# Altium footprint library sma_footprint.PcbLib: 1 footprints
Each footprint in its own frame and in the unit in brackets; x right, y up, seen from the top. Pads: shape width x height; smd on the part's side, far side on the other; paste and mask are expansions set on the pad; w line width, h text height; cw(c..) or ccw(c..) is an arc to the next point about the centre after c.
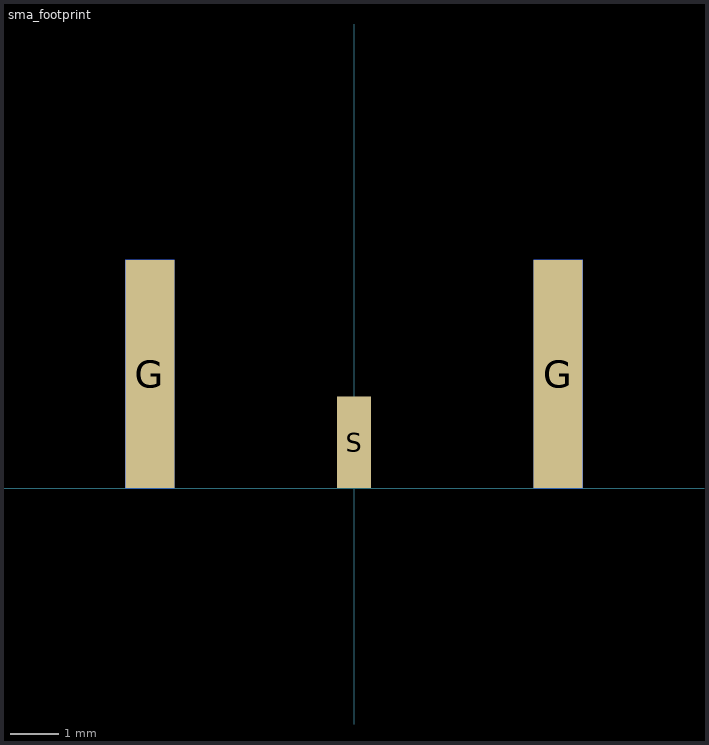
[diagram p0: the footprint, top view; thin cyan lines are the x and y axes]

## sma_footprint [mm]
pads (5):
  rect 1.02x4.75 smd: G(-4.25,2.375) G(4.25,2.375)
  rect 1.02x4.75 smd far side: G(-4.25,2.375) G(4.25,2.375)
  rect 0.7x1.91 smd: S(0,0.955)